# Altium schematic symbol library HSY-5050RGBW.SchLib: 1 symbol
Pins are listed as number, name and electrical type; pins without a type are passive.

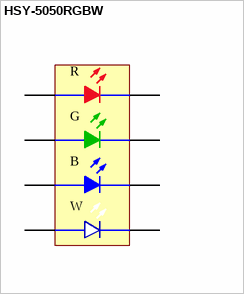
[diagram p0: symbol HSY-5050RGBW]

## HSY-5050RGBW
designator LED?
0505Color SMD LED
pins: 1 A1, 2 K2, 3 A3, 4 K4, 5 A5, 6 K6, 7 A7, 8 K8
text: R; G; B; W